# EAGLE library part SI4684-MYSMD (library Mainboard)
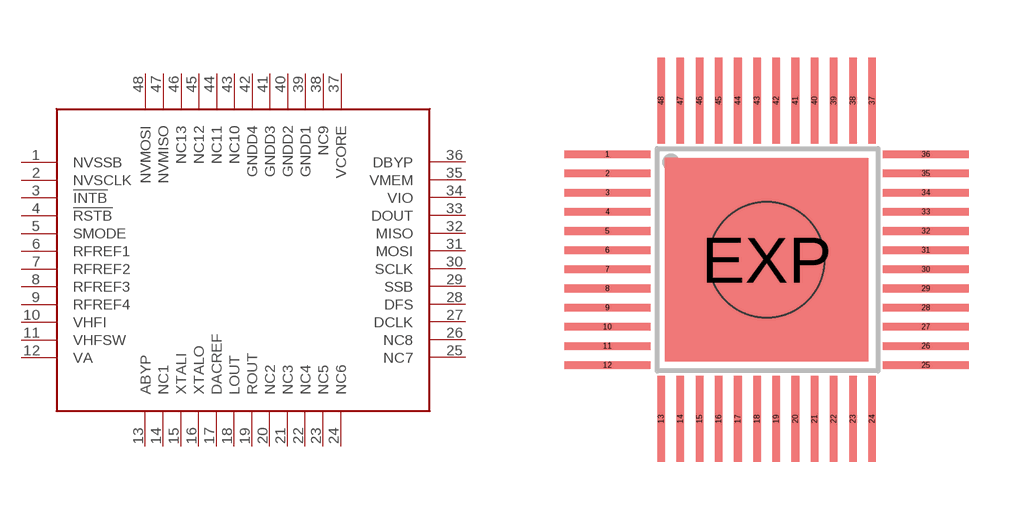
[diagram p12: symbol with the pads of QFN48-SI4684; footprint QFN48-SI4684]

Designator prefix -

## SI4684-MYSMD  [QFN48-SI4684]
1  NVSSB
2  NVSCLK
3  !INTB
4  !RSTB
5  SMODE
6  RFREF1
7  RFREF2
8  RFREF3
9  RFREF4
10  VHFI
11  VHFSW
12  VA
13  ABYP
14  NC1  nc
15  XTALI
16  XTALO
17  DACREF
18  LOUT
19  ROUT
20  NC2  nc
21  NC3  nc
22  NC4  nc
23  NC5  nc
24  NC6  nc
25  NC7  nc
26  NC8  nc
27  DCLK
28  DFS
29  SSB
30  SCLK
31  MOSI
32  MISO
33  DOUT
34  VIO
35  VMEM
36  DBYP
37  VCORE
38  NC9  nc
39  GNDD1
40  GNDD2
41  GNDD3
42  GNDD4
43  NC10  nc
44  NC11  nc
45  NC12  nc
46  NC13  nc
47  NVMISO
48  NVMOSI

## Footprint QFN48-SI4684 (pad centres in mm)
smd 2.25 x 0.2: 1 -4.15,2.75; 2 -4.15,2.25; 3 -4.15,1.75; 4 -4.15,1.25; 5 -4.15,0.75; 6 -4.15,0.25; 7 -4.15,-0.25; 8 -4.15,-0.75; 9 -4.15,-1.25; 10 -4.15,-1.75; 11 -4.15,-2.25; 12 -4.15,-2.75; 25 4.15,-2.75; 26 4.15,-2.25; 27 4.15,-1.75; 28 4.15,-1.25; 29 4.15,-0.75; 30 4.15,-0.25; 31 4.15,0.25; 32 4.15,0.75; 33 4.15,1.25; 34 4.15,1.75; 35 4.15,2.25; 36 4.15,2.75
smd 0.2 x 2.25: 13 -2.75,-4.15; 14 -2.25,-4.15; 15 -1.75,-4.15; 16 -1.25,-4.15; 17 -0.75,-4.15; 18 -0.25,-4.15; 19 0.25,-4.15; 20 0.75,-4.15; 21 1.25,-4.15; 22 1.75,-4.15; 23 2.25,-4.15; 24 2.75,-4.15; 37 2.75,4.15; 38 2.25,4.15; 39 1.75,4.15; 40 1.25,4.15; 41 0.75,4.15; 42 0.25,4.15; 43 -0.25,4.15; 44 -0.75,4.15; 45 -1.25,4.15; 46 -1.75,4.15; 47 -2.25,4.15; 48 -2.75,4.15
smd 5.3 x 5.3: EXP 0,0
hole 3 at 0,0